# Altium schematic symbol library PTS526SK15SMTR2LFS.SchLib: 2 symbols
Pins are listed as number, name and electrical type; pins without a type are passive.

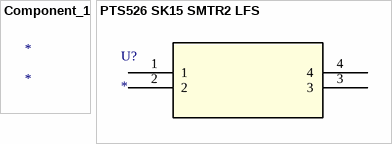
[diagram p0: symbols Component_1 to PTS526 SK15 SMTR2 LFS]

## Component_1
designator *

## PTS526 SK15 SMTR2 LFS
designator U?
No Description Available; Mfr_Name: C&K Components; RefDes: RefDes; Type: Type
footprint SMT_FS
pins: 1, 2, 3, 4